# EAGLE library part FSUSB42 (library ICs)
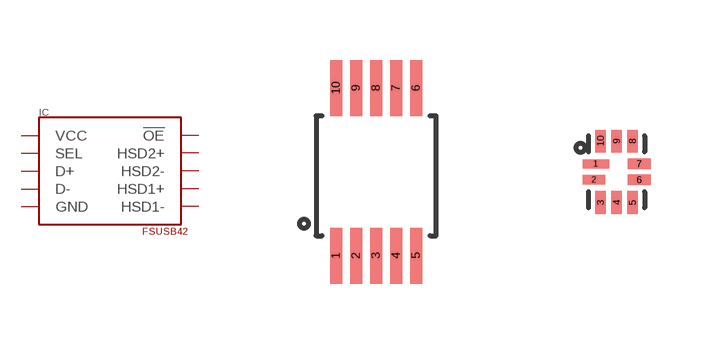
[diagram p5: symbol with the pads of MSOP; footprints MSOP, UMLP]

Designator prefix IC

## FSUSB42-MSOP  [MSOP]
1  VCC
2  SEL
3  D+
4  D-
5  GND
6  HSD1-
7  HSD1+
8  HSD2-
9  HSD2+
10  !OE!

## FSUSB42-UMLP (MN: Fairchild Semiconductor; MN_CODE: FSUSB42UMX; ORDER: DIGIKEY; ORDER_CODE: FSUSB42UMXTR-ND)  [UMLP]
1  D+
2  D-
3  GND
4  HSD1-
5  HSD1+
6  HSD2-
7  HSD2+
8  !OE!
9  VCC
10  SEL

## Footprint MSOP (pad centres in mm)
smd 0.3 x 1.4: 1 -1,-2; 2 -0.5,-2; 3 0,-2; 4 0.5,-2; 5 1,-2; 6 1,2.2; 7 0.5,2.2; 8 0,2.2; 9 -0.5,2.2; 10 -1,2.2

## Footprint UMLP (pad centres in mm)
smd 0.663 x 0.225: 1 -0.518,0.2
smd 0.563 x 0.225: 2 -0.569,-0.2
smd 0.255 x 0.563: 3 -0.4,-0.768; 4 0,-0.768; 5 0.4,-0.768; 8 0.4,0.768; 9 0,0.768; 10 -0.4,0.768
smd 0.563 x 0.255: 6 0.569,-0.2; 7 0.569,0.2